# Altium schematic symbol library GRM155R71C223KA01D.SchLib: 1 symbol
Pins are listed as number, name and electrical type; pins without a type are passive.

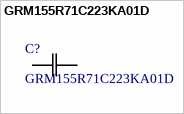
[diagram p0: symbol GRM155R71C223KA01D]

## GRM155R71C223KA01D
designator C?
Description; Manufacturer_Name: Murata; Copyright: Copyright (C) 2026 Ultra Librarian. All rights reserved.; Manufacturer_Part_Number: GRM155R71C223KA01D
footprint G-155_MUR
pins: 1, 2